# EAGLE library part DM3D-SF (library dooba)
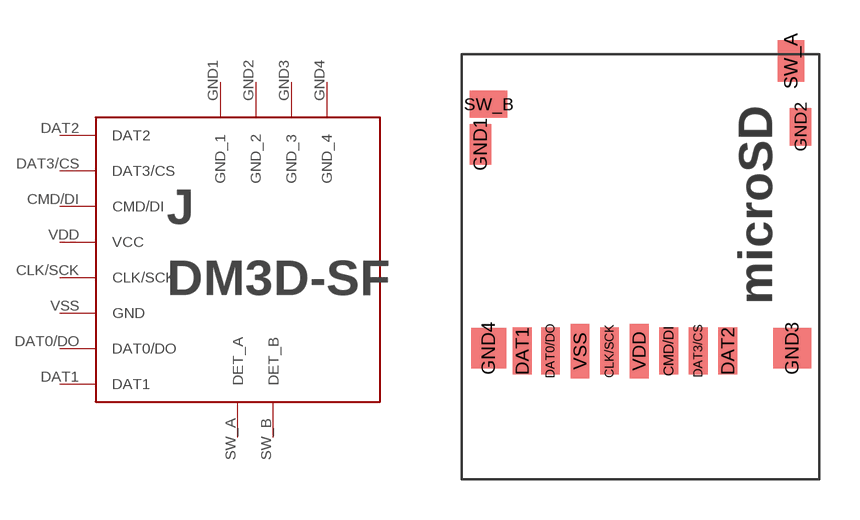
[diagram p23: symbol with the pads of DM3D-SF; footprint DM3D-SF]

Designator prefix J

## DM3D-SFDM  [DM3D-SF]
CLK/SCK  CLK/SCK
CMD/DI  CMD/DI
DAT0/DO  DAT0/DO
DAT1  DAT1
DAT2  DAT2
DAT3/CS  DAT3/CS
GND1  GND_1
GND2  GND_2
GND3  GND_3
GND4  GND_4
SW_A  DET_A
SW_B  DET_B
VDD  VCC
VSS  GND

## Footprint DM3D-SF (pad centres in mm)
smd 0.7 x 1.75: CLK/SCK -1.2,-1.34; CMD/DI 1,-1.34; DAT0/DO -3.4,-1.34; DAT1 -4.45,-1.34; DAT2 3.2,-1.34; DAT3/CS 2.1,-1.34
smd 0.8 x 1.5: GND1 -6,6.36
smd 0.8 x 1.4: GND2 5.9,7.01
smd 1.4 x 1.5: GND3 5.6,-1.24
smd 1.3 x 1.5: GND4 -5.7,-1.24
smd 1 x 1.55: SW_A 5.55,9.46
smd 1.4 x 1: SW_B -5.7,7.86
smd 0.7 x 2.032: VDD -0.1,-1.34; VSS -2.3,-1.34